# EAGLE library part TCAN330 (library U-TI-TCAN330-CAN-transceiver)
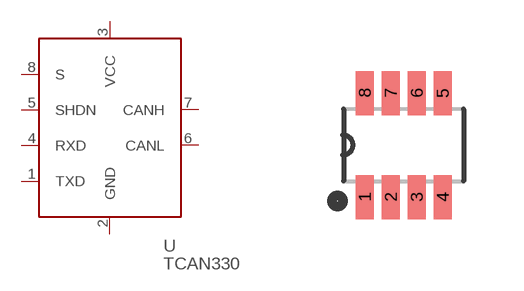
[diagram p0: symbol with the pads of SOT23-8_TI-DCN; footprint SOT23-8_TI-DCN]

Designator prefix U

## TCAN330 (DPN: 296-44211-1-ND; MPN: TCAN330GDCNT)  [SOT23-8_TI-DCN]
1  TXD  in
2  GND  pwr
3  VCC  pwr
4  RXD  out
5  SHDN  in
6  CANL
7  CANH
8  S  in

## Footprint SOT23-8_TI-DCN (pad centres in mm)
smd 0.45 x 1.1: 1 -0.975,-1.3; 2 -0.325,-1.3; 3 0.325,-1.3; 4 0.975,-1.3; 5 0.975,1.3; 6 0.325,1.3; 7 -0.325,1.3; 8 -0.975,1.3